# Altium footprint library Crystal.PcbLib: 1 footprints
Each footprint in its own frame and in the unit in brackets; x right, y up, seen from the top. Pads: shape width x height; smd on the part's side, far side on the other; paste and mask are expansions set on the pad; w line width, h text height; cw(c..) or ccw(c..) is an arc to the next point about the centre after c.
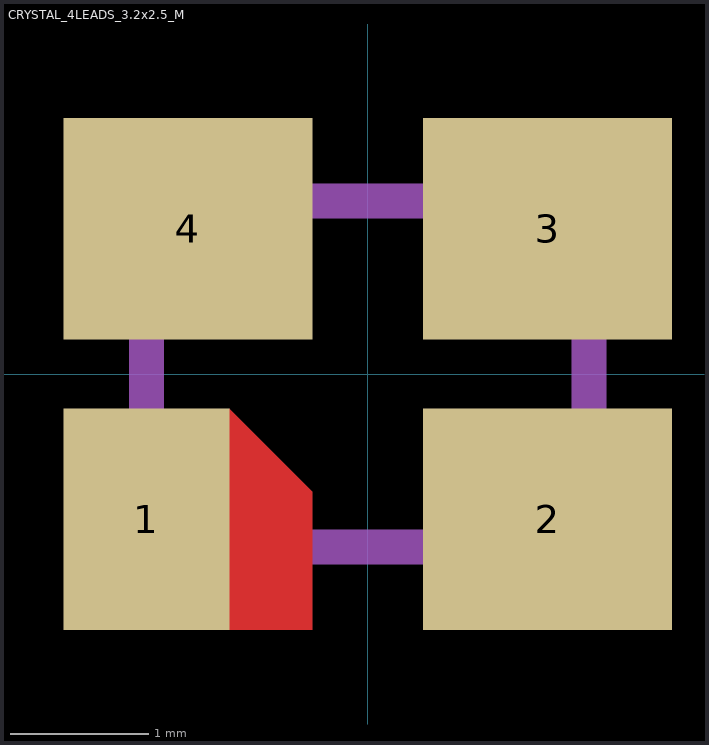
[diagram p0: the footprint, top view; thin cyan lines are the x and y axes]

## CRYSTAL_4LEADS_3.2x2.5_M [mm] "SMD Crystal, 4-Leads, Body 3.2x2.5x0.7mm, IPC Low Density"
height 0.7
pads (4):
  rect 1.2x1.6 smd: 1(-1.6,-1.05)
  rect 1.8x1.6 smd: 2(1.3,-1.05) 3(1.3,1.05) 4(-1.3,1.05)
Top Layer:
  region: -1,-0.25 -0.4,-0.85 -0.4,-1.85 -1,-1.85
Mechanical 13:
  lines w0.254: -1.6,-1.25 -1.6,1.25 1.6,1.25 1.6,-1.25 -1.6,-1.25
3D body: height 0.7, standoff 0, extent -1.6,-1.25 1.6,1.25